# Altium footprint library Inductor.PcbLib: 40 footprints (part 2 of 3)
Each footprint in its own frame and in the unit in brackets; x right, y up, seen from the top. Pads: shape width x height; smd on the part's side, far side on the other; paste and mask are expansions set on the pad; w line width, h text height; cw(c..) or ccw(c..) is an arc to the next point about the centre after c.
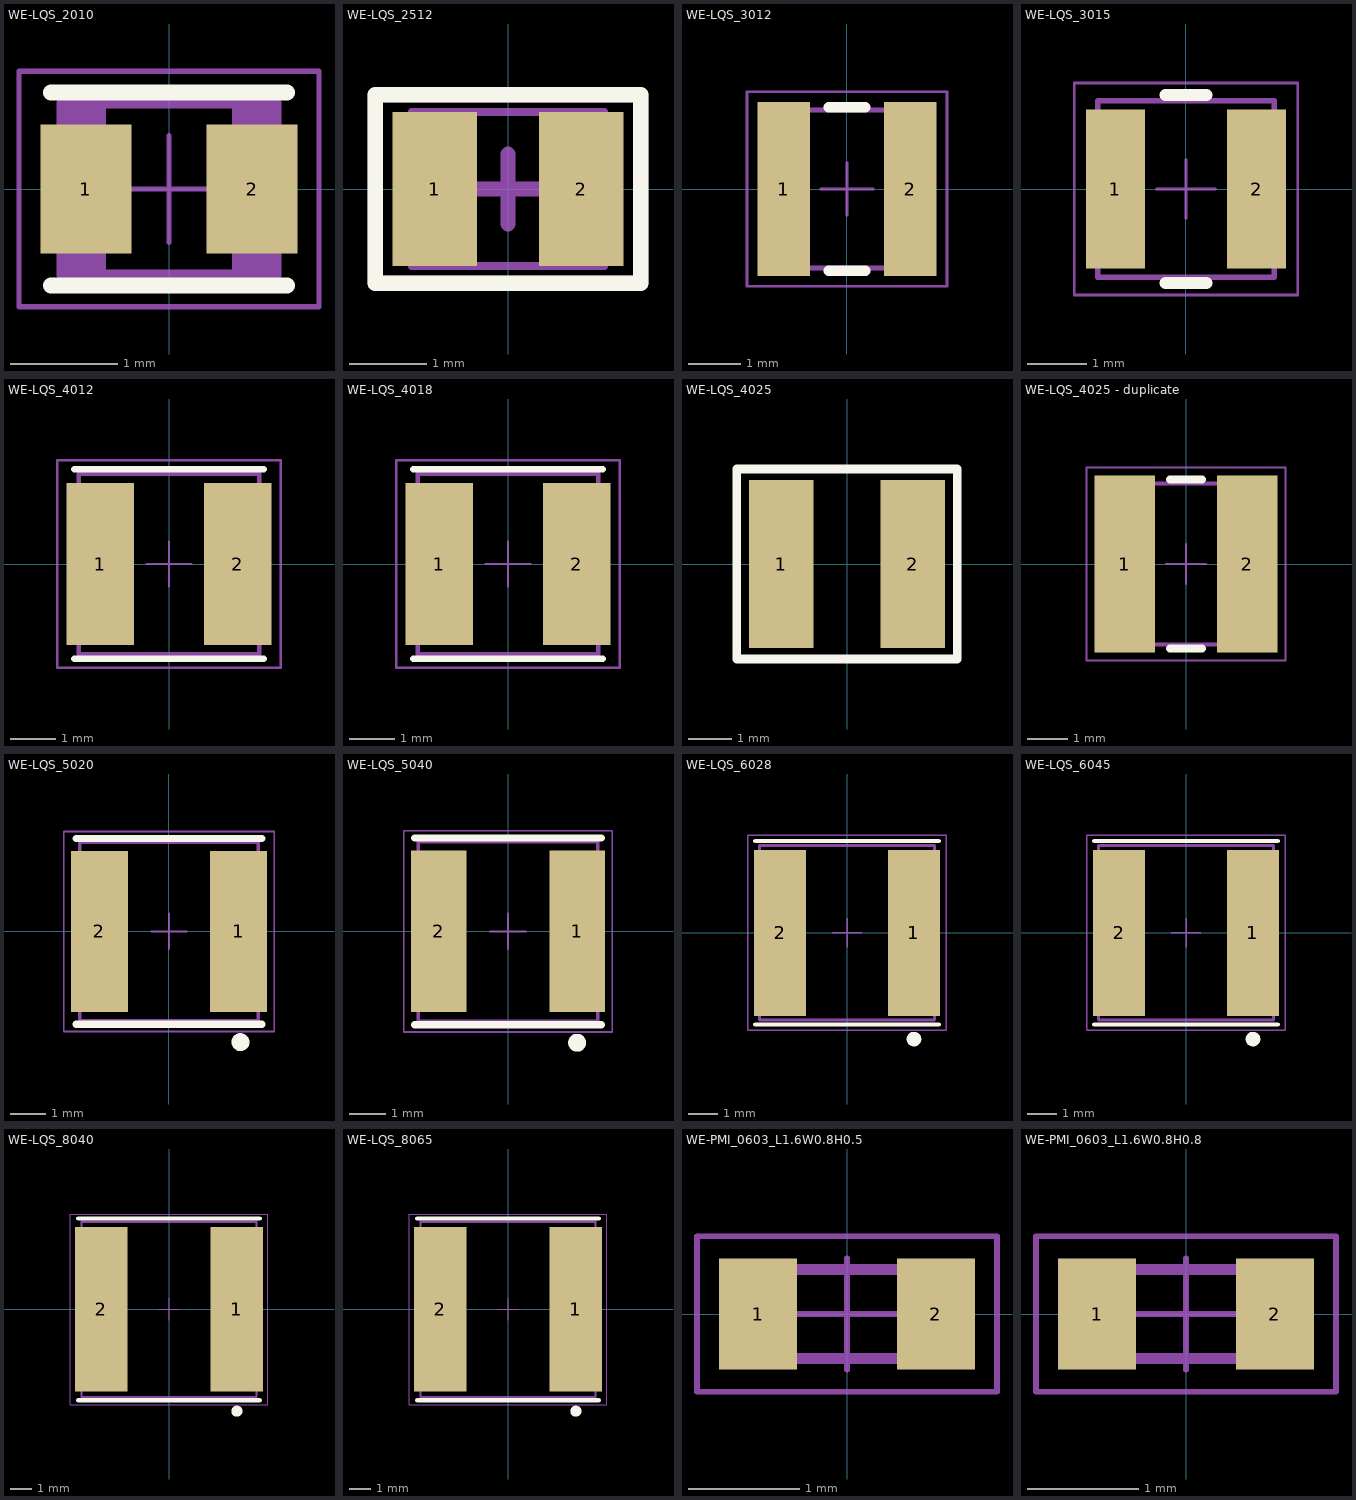
[diagram p1: the footprints below, top view; thin cyan lines are the x and y axes]

## WE-LQS_2010 [mm] "SMD Power Inductor, 2-Leads, body 2x1.6mm"
height 1
pads (2):
  rect 0.85x1.2 smd: 1(-0.775,0) 2(0.775,0)
Top Overlay:
  lines w0.15: -1.1,-0.9 1.1,-0.9 ; -1.1,0.9 1.1,0.9
Mechanical 13:
  region: 1,0.8 0.588,0.8 0.588,-0.8 1,-0.8
  rectangle: -1,-0.8 -0.588,0.8
  lines w0.1: -1,-0.8 1,-0.8 1,0.8 -1,0.8 -1,-0.8
  text ".Designator" at 0.133,-1.999 h0.4
Mechanical 15:
  lines w0.05: -0.5,0 0.5,0 ; 0,-0.5 0,0.5 ; -1.4,-1.1 1.4,-1.1 1.4,1.1 -1.4,1.1 -1.4,-1.1
3D body "IndLQS_2010.stp": height 1.01, standoff 0.01, extent -1,-0.8 1,0.824

## WE-LQS_2512 [mm] "SMD Power Inductor, 2-Leads, body 2.5x2mm"
height 1.2
pads (2):
  rect 1.1x2 smd: 1(-0.95,0) 2(0.95,0)
Top Overlay:
  lines w0.2: -1.725,-1.225 1.725,-1.225 1.725,1.225 -1.725,1.225 -1.725,-1.225
Mechanical 13:
  region: 1.25,1 0.775,1 0.775,-1 1.25,-1
  rectangle: -1.25,-1 -0.775,1
  lines w0.1: -1.25,-1 -1.25,1 1.25,1 1.25,-1 -1.25,-1
  text ".Designator" at -1.999,-0.133 h0.4
Mechanical 15:
  lines w0.2: -0.45,0 0.45,0 ; 0,-0.45 0,0.45 ; -1.724,-1.225 1.725,-1.225 1.725,1.225 -1.724,1.225 -1.724,-1.225
3D body "IndLQS_2512.stp": height 1.2, standoff 0, extent -1.25,-1 1.25,1

## WE-LQS_3012 [mm] "SMD Power Inductor, 2-Leads, body 3x3mm"
height 1.2
pads (2):
  rect 1x3.3 smd: 1(-1.2,0) 2(1.2,0)
Top Overlay:
  lines w0.2: -0.35,-1.55 0.35,-1.55 ; -0.35,1.55 0.35,1.55
Mechanical 2:
  lines w0.1: -1.5,-1.5 1.5,-1.5 1.5,1.5 -1.5,1.5 -1.5,-1.5
Top Courtyard (Mech5):
  lines w0.05: -0.5,0 0.5,0 ; 0,-0.5 0,0.5 ; -1.9,-1.85 -1.9,1.85 1.9,1.85 1.9,-1.85 -1.9,-1.85
Top Component Outline:
  lines w0.1: -1.5,-1.5 1.5,-1.5 1.5,1.5 -1.5,1.5 -1.5,-1.5
Top Designator (Mech7):
  text ".Designator" at -3.499,-0.233 h0.7
3D body "IndLQS_3012_TPI_74404031xxxA.stp": height 1.2, standoff 0, extent -1.5,-1.5 1.5,1.5

## WE-LQS_3015 [mm] "SMD Power Inductor, 2-Leads, body 3x3mm"
height 1.5
pads (2):
  rect 1x2.7 smd: 1(-1.2,0) 2(1.2,0)
Top Overlay:
  lines w0.2: -0.35,-1.6 0.35,-1.6 ; -0.35,1.6 0.35,1.6
Mechanical 2:
  lines w0.1: -1.5,-1.5 1.5,-1.5 1.5,1.5 -1.5,1.5 -1.5,-1.5
Top Courtyard (Mech5):
  lines w0.05: -0.5,0 0.5,0 ; 0,-0.5 0,0.5 ; -1.9,-1.8 -1.9,1.8 1.9,1.8 1.9,-1.8 -1.9,-1.8
Top Component Outline:
  lines w0.1: -1.5,-1.5 1.5,-1.5 1.5,1.5 -1.5,1.5 -1.5,-1.5
Top Designator (Mech7):
  text ".Designator" at -3.499,-0.233 h0.7
3D body "LQS_3015.stp": height 1.5, standoff 0, extent -1.5,-1.5 1.5,1.5

## WE-LQS_4012 [mm] "SMD Power Inductor, 2-Leads, body 4x4mm"
height 1.2
pads (2):
  rect 1.5x3.6 smd: 1(-1.525,0) 2(1.525,0)
Top Overlay:
  lines w0.15: -2.1,-2.1 2.1,-2.1 ; -2.1,2.1 2.1,2.1
Mechanical 2:
  lines w0.1: -2,-2 2,-2 2,2 -2,2 -2,-2
Top Courtyard (Mech5):
  lines w0.05: -0.5,0 0.5,0 ; 0,-0.5 0,0.5 ; -2.475,-2.3 -2.475,2.3 2.475,2.3 2.475,-2.3 -2.475,-2.3
Top Component Outline:
  lines w0.1: -2,-2 2,-2 2,2 -2,2 -2,-2
Top Designator (Mech7):
  text ".Designator" at -4.998,-0.333 h1
3D body "IndLQS_4012.stp": height 1.19, standoff -0.01, extent -2,-2 2,2

## WE-LQS_4018 [mm] "SMD Power Inductor, 2-Leads, body 4x4mm"
height 1.8
pads (2):
  rect 1.5x3.6 smd: 1(-1.525,0) 2(1.525,0)
Top Overlay:
  lines w0.15: -2.1,-2.1 2.1,-2.1 ; -2.1,2.1 2.1,2.1
Mechanical 2:
  lines w0.1: -2,-2 -2,2 2,2 2,-2 -2,-2
Top Courtyard (Mech5):
  lines w0.05: -0.5,0 0.5,0 ; 0,-0.5 0,0.5 ; -2.475,-2.3 2.475,-2.3 2.475,2.3 -2.475,2.3 -2.475,-2.3
Top Component Outline:
  lines w0.1: -2,-2 -2,2 2,2 2,-2 -2,-2
Top Designator (Mech7):
  text ".Designator" at -4.998,-0.333 h1
3D body "IndLQS_4018.stp": height 1.8, standoff 0, extent -2,-2 2,2

## WE-LQS_4025 [mm]
pads (2):
  rect 1.5x3.9 smd: 1(-1.525,0) 2(1.525,0)
Top Overlay:
  lines w0.2: -2.55,-2.2 2.55,-2.2 2.55,2.2 -2.55,2.2 -2.55,-2.2
3D body "STEP-WE-LQS-4025-rev1.step": height 2.16, standoff 0.01, extent -2,-2 2,2

## WE-LQS_4025 - duplicate [mm] "SMD Power Inductor, 2-Leads, body 4x4mm"
height 2.5
pads (2):
  rect 1.5x4.4 smd: 1(-1.525,0) 2(1.525,0)
Top Overlay:
  lines w0.2: -0.4,-2.1 0.4,-2.1 ; -0.4,2.1 0.4,2.1
Mechanical 2:
  lines w0.1: -2,-2 -2,2 2,2 2,-2 -2,-2
Top Courtyard (Mech5):
  lines w0.05: -0.5,0 0.5,0 ; 0,-0.5 0,0.5 ; -2.475,-2.4 2.475,-2.4 2.475,2.4 -2.475,2.4 -2.475,-2.4
Top Component Outline:
  lines w0.1: -2,-2 -2,2 2,2 2,-2 -2,-2
Top Designator (Mech7):
  text ".Designator" at -4.998,-0.333 h1
3D body "IndLQS_4025_74404043xxxA.stp": height 2.15, standoff 0, extent -2,-2 2,2

## WE-LQS_5020 [mm] "SMD Power Inductor, 2-Leads, body 5x5mm"
height 2
pads (2):
  rect 1.6x4.5 smd: 1(1.95,0) 2(-1.95,0)
Top Overlay:
  circle w0.25: c2,-3.1 r0.125
  lines w0.2: -2.6,-2.6 2.6,-2.6 ; -2.6,2.6 2.6,2.6
Mechanical 2:
  circle w0.1: c1.7,-1.7 r0.3
  lines w0.1: -2.5,-2.5 -2.5,2.5 2.5,2.5 2.5,-2.5 -2.5,-2.5
Top Courtyard (Mech5):
  lines w0.05: -0.5,0 0.5,0 ; 0,-0.5 0,0.5 ; -2.95,-2.8 2.95,-2.8 2.95,2.8 -2.95,2.8 -2.95,-2.8
Top Component Outline:
  circle w0.1: c1.7,-1.7 r0.3
  lines w0.1: -2.5,-2.5 -2.5,2.5 2.5,2.5 2.5,-2.5 -2.5,-2.5
Top Designator (Mech7):
  text ".Designator" at -7.498,-0.5 h1.5
3D body "IndLQS_5020S.stp": height 2, standoff 0, extent -2.5,-2.5 2.5,2.5

## WE-LQS_5040 [mm] "SMD Power Inductor, 2-Leads, body 5x5mm"
height 4
pads (2):
  rect 1.55x4.5 smd: 1(1.925,0) 2(-1.925,0)
Top Overlay:
  circle w0.25: c1.925,-3.1 r0.125
  lines w0.2: -2.6,-2.6 2.6,-2.6 ; -2.6,2.6 2.6,2.6
Mechanical 2:
  circle w0.1: c1.7,-1.7 r0.3
  lines w0.1: -2.5,-2.5 -2.5,2.5 2.5,2.5 2.5,-2.5 -2.5,-2.5
Top Courtyard (Mech5):
  lines w0.05: -0.5,0 0.5,0 ; 0,-0.5 0,0.5 ; -2.9,-2.8 -2.9,2.8 2.9,2.8 2.9,-2.8 -2.9,-2.8
Top Component Outline:
  circle w0.1: c1.7,-1.7 r0.3
  lines w0.1: -2.5,-2.5 -2.5,2.5 2.5,2.5 2.5,-2.5 -2.5,-2.5
Top Designator (Mech7):
  text ".Designator" at -7.498,-0.5 h1.5
3D body "LQS_5040.stp": height 4.03, standoff 0.03, extent -2.5,-2.5 2.5,2.5

## WE-LQS_6028 [mm] "SMD Power Inductor, 2-Leads, body 6x6mm"
height 2.8
pads (2):
  rect 1.8x5.7 smd: 1(2.3,0) 2(-2.3,0)
Top Overlay:
  circle w0.25: c2.3,-3.65 r0.125
  lines w0.15: -3.15,-3.15 3.15,-3.15 ; -3.15,3.15 3.15,3.15
Mechanical 2:
  circle w0.1: c2.2,-2.2 r0.3
  lines w0.1: -3,-3 -3,3 3,3 3,-3 -3,-3
Top Courtyard (Mech5):
  lines w0.05: -0.5,0 0.5,0 ; 0,-0.5 0,0.5 ; -3.4,-3.35 -3.4,3.35 3.4,3.35 3.4,-3.35 -3.4,-3.35
Top Component Outline:
  circle w0.1: c2.2,-2.2 r0.3
  lines w0.1: -3,-3 -3,3 3,3 3,-3 -3,-3
Top Designator (Mech7):
  text ".Designator" at -7.498,-0.5 h1.5
3D body "LQS_6028.stp": height 2.83, standoff 0.02, extent -3,-3 3,3

## WE-LQS_6045 [mm] "SMD Power Inductor, 2-Leads, body 6x6mm"
height 4.5
pads (2):
  rect 1.8x5.7 smd: 1(2.3,0) 2(-2.3,0)
Top Overlay:
  circle w0.25: c2.3,-3.65 r0.125
  lines w0.15: -3.15,-3.15 3.15,-3.15 ; -3.15,3.15 3.15,3.15
Mechanical 2:
  circle w0.1: c2.2,-2.2 r0.3
  lines w0.1: -3,-3 3,-3 3,3 -3,3 -3,-3
Top Courtyard (Mech5):
  lines w0.05: -0.5,0 0.5,0 ; 0,-0.5 0,0.5 ; -3.4,-3.35 3.4,-3.35 3.4,3.35 -3.4,3.35 -3.4,-3.35
Top Component Outline:
  circle w0.1: c2.2,-2.2 r0.3
  lines w0.1: -3,-3 3,-3 3,3 -3,3 -3,-3
Top Designator (Mech7):
  text ".Designator" at -7.498,-0.5 h1.5
3D body "LQS_6045.stp": height 4.52, standoff 0.02, extent -3,-3 3,3

## WE-LQS_8040 [mm] "SMD Power Inductor, 2-Leads, body 8x8mm"
height 4.2
pads (2):
  rect 2.4x7.5 smd: 1(3.1,0) 2(-3.1,0)
Top Overlay:
  circle w0.25: c3.1,-4.65 r0.125
  lines w0.2: -4.15,-4.15 4.15,-4.15 ; -4.15,4.15 4.15,4.15
Mechanical 2:
  circle w0.1: c3,-3 r0.4
  lines w0.1: -4,-4 4,-4 4,4 -4,4 -4,-4
Top Courtyard (Mech5):
  lines w0.05: -0.5,0 0.5,0 ; 0,-0.5 0,0.5 ; -4.5,-4.35 -4.5,4.35 4.5,4.35 4.5,-4.35 -4.5,-4.35
Top Component Outline:
  circle w0.1: c3,-3 r0.4
  lines w0.1: -4,-4 4,-4 4,4 -4,4 -4,-4
Top Designator (Mech7):
  text ".Designator" at -7.498,-0.5 h1.5
3D body "LQS_8040.stp": height 4.2, standoff 0, extent -4,-4 4,4

## WE-LQS_8065 [mm] "SMD Power Inductor, 2-Leads, body 8.3x8.3mm"
height 6.5
pads (2):
  rect 2.4x7.5 smd: 1(3.1,0) 2(-3.1,0)
Top Overlay:
  circle w0.25: c3.1,-4.65 r0.125
  lines w0.2: -4.15,-4.15 4.15,-4.15 ; -4.15,4.15 4.15,4.15
Mechanical 2:
  circle w0.1: c3,-3 r0.4
  lines w0.1: -4,-4 4,-4 4,4 -4,4 -4,-4
Top Courtyard (Mech5):
  lines w0.05: -0.5,0 0.5,0 ; 0,-0.5 0,0.5 ; -4.5,-4.35 -4.5,4.35 4.5,4.35 4.5,-4.35 -4.5,-4.35
Top Component Outline:
  circle w0.1: c3,-3 r0.4
  lines w0.1: -4,-4 4,-4 4,4 -4,4 -4,-4
Top Designator (Mech7):
  text ".Designator" at -7.498,-0.5 h1.5
3D body "IndLQS_8065.stp": height 6.52, standoff 0.02, extent -4,-4 4,4

## WE-PMI_0603_L1.6W0.8H0.5 [mm] "Power Multilayer Inductor, body 1.6x0.8mm"
height 0.5
pads (2):
  rect 0.7x1 smd: 1(-0.8,0) 2(0.8,0)
Mechanical 2:
  lines w0.1: -0.8,-0.4 0.8,-0.4 0.8,0.4 -0.8,0.4 -0.8,-0.4
Top Courtyard:
  lines w0.05: -0.5,0 0.5,0 ; 0,-0.5 0,0.5 ; -1.35,-0.7 -1.35,0.7 1.35,0.7 1.35,-0.7 -1.35,-0.7
Top Designator:
  text ".Designator" at -2.499,-0.167 h0.5
Top Component Outline (Mech11):
  lines w0.1: -0.8,-0.4 -0.8,0.4 0.8,0.4 0.8,-0.4 -0.8,-0.4
3D body "74479762xxx_0603.stp": height 0.5, standoff 0, extent -0.8,-0.4 0.8,0.4

## WE-PMI_0603_L1.6W0.8H0.8 [mm] "Power Multilayer Inductor, body 1.6x0.8mm"
height 0.8
pads (2):
  rect 0.7x1 smd: 1(-0.8,0) 2(0.8,0)
Mechanical 2:
  lines w0.1: -0.8,-0.4 0.8,-0.4 0.8,0.4 -0.8,0.4 -0.8,-0.4
Top Courtyard:
  lines w0.05: -0.5,0 0.5,0 ; 0,-0.5 0,0.5 ; -1.35,-0.7 -1.35,0.7 1.35,0.7 1.35,-0.7 -1.35,-0.7
Top Designator:
  text ".Designator" at -2.499,-0.167 h0.5
Top Component Outline (Mech11):
  lines w0.1: -0.8,-0.4 -0.8,0.4 0.8,0.4 0.8,-0.4 -0.8,-0.4
3D body "74479763xxx_0603.stp": height 0.8, standoff 0, extent -0.8,-0.4 0.8,0.4